# Altium footprint library 10S_BYS_PcbLib1.PcbLib: 33 footprints (part 2 of 3)
Each footprint in its own frame and in the unit in brackets; x right, y up, seen from the top. Pads: shape width x height; smd on the part's side, far side on the other; paste and mask are expansions set on the pad; w line width, h text height; cw(c..) or ccw(c..) is an arc to the next point about the centre after c.
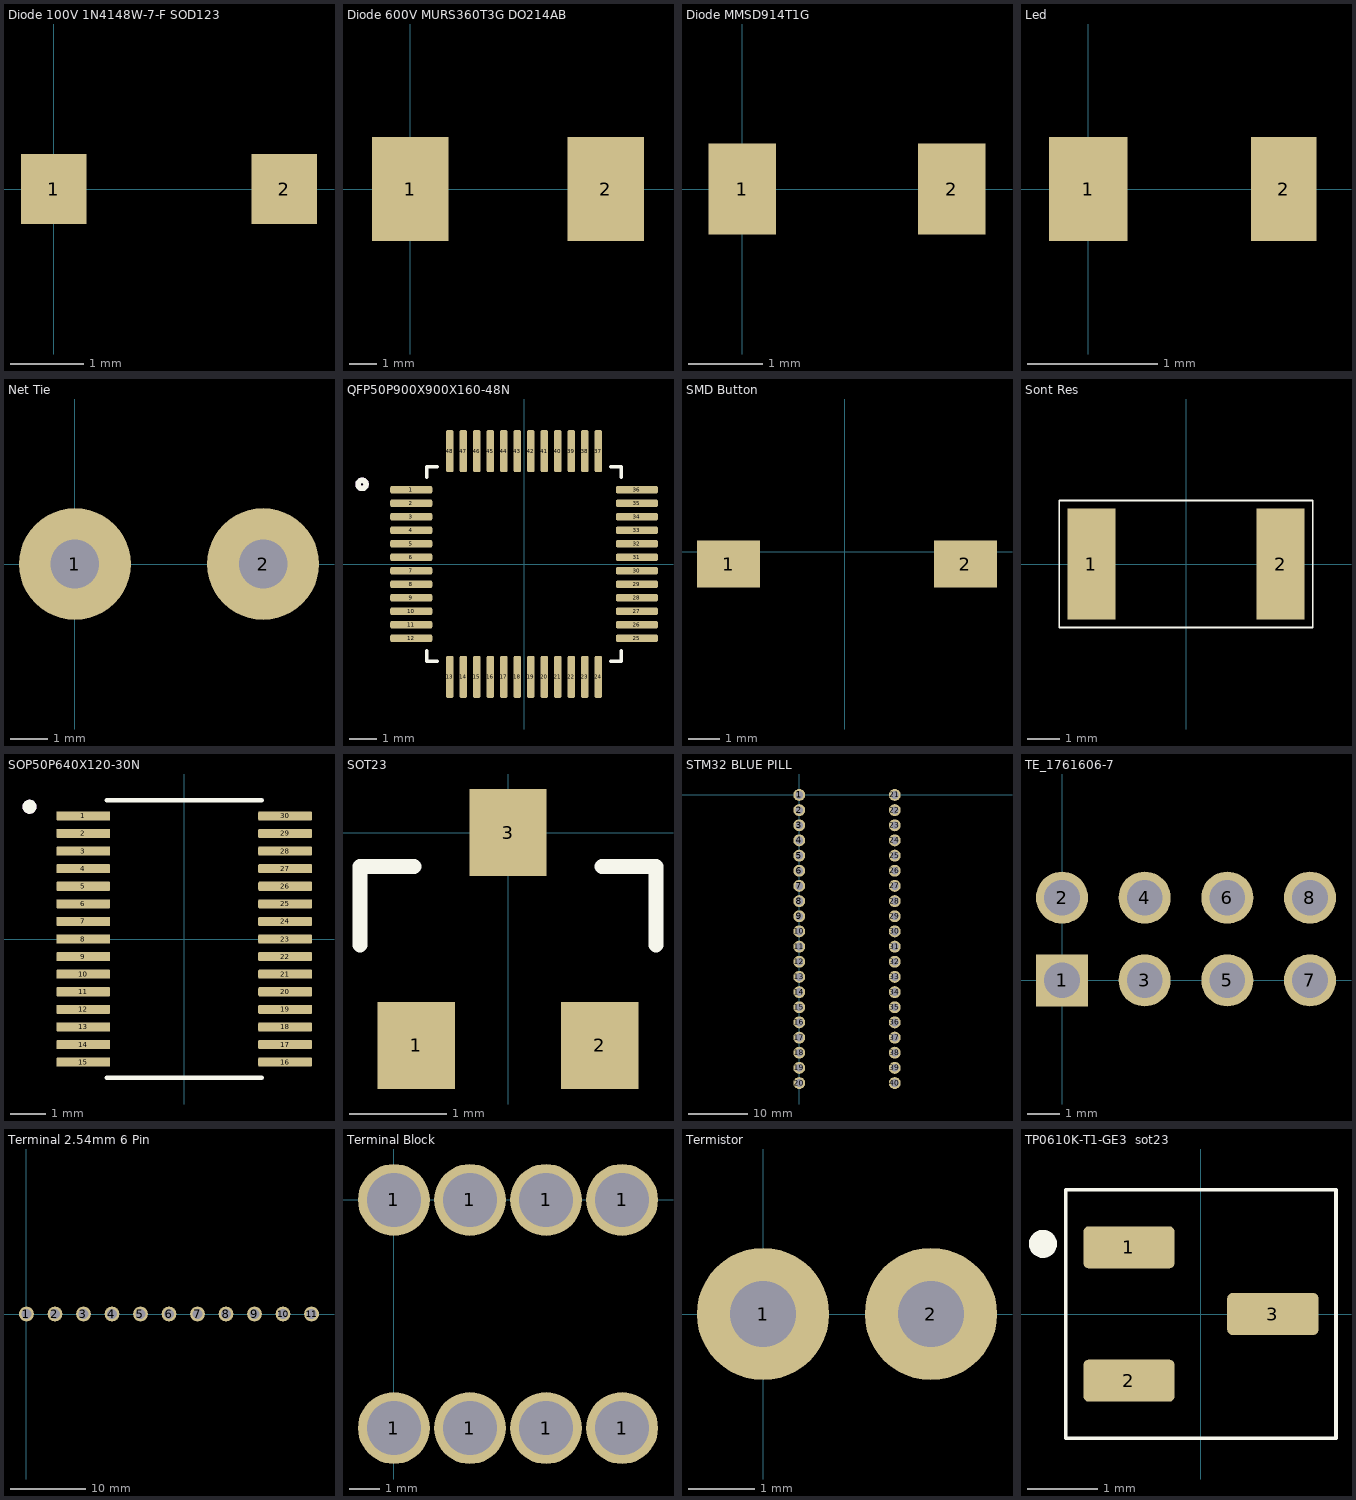
[diagram p1: the footprints below, top view; thin cyan lines are the x and y axes]

## Diode 100V 1N4148W-7-F SOD123 [mm]
pads (2):
  rect 0.9x0.95 smd: 1(0,0) 2(3.15,0)
3D body "1n4148w-13-f.stp": height 1.1, standoff 0, extent -0.261,-0.788 3.389,0.762

## Diode 600V MURS360T3G DO214AB [mil]
pads (2):
  rect 110x150 smd: 1(0,0) 2(280.98,0)
3D body "DO-214AB.STEP": height 125.77, standoff 10.33, extent -30.51,-118.11 286.42,127.95

## Diode MMSD914T1G [mm]
pads (2):
  rect 0.91x1.22 smd: 1(0,0) 2(2.815,0)
3D body "1n4148w-13-f.stp": height 1.1, standoff 0, extent -0.442,-0.761 3.208,0.789

## Led [mm]
pads (2):
  rect 0.6x0.8 smd: 1(0,0)
  rect 0.5x0.8 smd: 2(1.5,0)
3D body "0603 Chip SMD LED (1.6x0.8mm).STEP": height 0.8, standoff 0, extent -0.05,-0.4 1.55,0.4

## Net Tie [mm]
pads (2):
  round 3 hole 1.3: 1(0,0) 2(5.04,0)

## QFP50P900X900X160-48N [mm]
pads (48):
  rrect50% 1.56x0.28 smd: 1(-4.18,2.75) 2(-4.18,2.25) 3(-4.18,1.75) 4(-4.18,1.25) 5(-4.18,0.75) 6(-4.18,0.25) 7(-4.18,-0.25) 8(-4.18,-0.75) 9(-4.18,-1.25) 10(-4.18,-1.75) 11(-4.18,-2.25) 12(-4.18,-2.75) 25(4.18,-2.75) 26(4.18,-2.25) 27(4.18,-1.75) 28(4.18,-1.25) 29(4.18,-0.75) 30(4.18,-0.25) 31(4.18,0.25) 32(4.18,0.75) 33(4.18,1.25) 34(4.18,1.75) 35(4.18,2.25) 36(4.18,2.75)
  rrect50% 0.28x1.56 smd: 13(-2.75,-4.18) 14(-2.25,-4.18) 15(-1.75,-4.18) 16(-1.25,-4.18) 17(-0.75,-4.18) 18(-0.25,-4.18) 19(0.25,-4.18) 20(0.75,-4.18) 21(1.25,-4.18) 22(1.75,-4.18) 23(2.25,-4.18) 24(2.75,-4.18) 37(2.75,4.18) 38(2.25,4.18) 39(1.75,4.18) 40(1.25,4.18) 41(0.75,4.18) 42(0.25,4.18) 43(-0.25,4.18) 44(-0.75,4.18) 45(-1.25,4.18) 46(-1.75,4.18) 47(-2.25,4.18) 48(-2.75,4.18)
Top Overlay:
  circle w0.2: c-6,2.95 r0.15
  lines w0.127: -3.6,-3.21 -3.6,-3.6 -3.21,-3.6 ; -3.6,3.21 -3.6,3.6 -3.21,3.6 ; 3.21,-3.6 3.6,-3.6 3.6,-3.21 ; 3.21,3.6 3.6,3.6 3.6,3.21
Mechanical 13:
  circle w0.2: c-6,2.95 r0.15
3D body "User Library-LQFP50P900X900X160.STEP": height 1.6, standoff 0, extent -4.452,-4.503 4.548,4.497

## SMD Button [mm]
pads (2):
  rect 2x1.5 smd: 1(-3.683,-0.381) 2(3.81,-0.381)
3D body "Tactile_SMD_3x6x2.5mm.STEP": height 2.51, standoff 0, extent -4.026,-2.21 4.026,1.448

## Sont Res [mm]
pads (2):
  rect 1.49x3.42 smd: 1(-2.914,0) 2(2.914,0)
Top Overlay:
  lines w0.05: -3.908,-1.958 -3.908,1.958 3.908,1.958 3.908,-1.958 -3.908,-1.958
3D body "step_temp.STEP": height 0.9, standoff 0, extent -3.2,-1.6 3.2,1.6

## SOP50P640X120-30N [mm]
pads (30):
  rrect25% 1.53x0.26 smd: 1(-2.87,3.5) 2(-2.87,3) 3(-2.87,2.5) 4(-2.87,2) 5(-2.87,1.5) 6(-2.87,1) 7(-2.87,0.5) 8(-2.87,0) 9(-2.87,-0.5) 10(-2.87,-1) 11(-2.87,-1.5) 12(-2.87,-2) 13(-2.87,-2.5) 14(-2.87,-3) 15(-2.87,-3.5) 16(2.87,-3.5) 17(2.87,-3) 18(2.87,-2.5) 19(2.87,-2) 20(2.87,-1.5) 21(2.87,-1) 22(2.87,-0.5) 23(2.87,0) 24(2.87,0.5) 25(2.87,1) 26(2.87,1.5) 27(2.87,2) 28(2.87,2.5) 29(2.87,3) 30(2.87,3.5)
Top Overlay:
  circle w0.2: c-4.4,3.76 r0.1
  lines w0.127: -2.2,-3.95 2.2,-3.95 ; -2.2,3.95 2.2,3.95
Mechanical 13:
  circle w0.2: c-4.4,3.76 r0.1
3D body "step_temp.STEP": height 1.2, standoff 0, extent -3.2,-3.9 3.2,3.9

## SOT23 [mm]
pads (3):
  rect 0.8x0.9 smd: 1(-0.95,-2.2) 2(0.95,-2.2) 3(0,0)
Top Overlay:
  lines w0.152: -1.529,-1.163 -1.529,-0.35 -0.971,-0.35 ; 0.971,-0.35 1.529,-0.35 1.529,-1.163
3D body "CircuitWorks-SOT-23.STEP": height 1.05, standoff -0.05, extent -1.5,-2.35 1.5,0.15

## STM32 BLUE PILL [mm]
pads (40):
  round 2 hole 1.3: 1(0,0) 2(0,-2.54) 3(0,-5.08) 4(0,-7.62) 5(0,-10.16) 6(0,-12.7) 7(0,-15.24) 8(0,-17.78) 9(0,-20.32) 10(0,-22.86) 11(0,-25.4) 12(0,-27.94) 13(0,-30.48) 14(0,-33.02) 15(0,-35.56) 16(0,-38.1) 17(0,-40.64) 18(0,-43.18) 19(0,-45.72) 20(0,-48.26) 21(16,0) 22(16,-2.54) 23(16,-5.08) 24(16,-7.62) 25(16,-10.16) 26(16,-12.7) 27(16,-15.24) 28(16,-17.78) 29(16,-20.32) 30(16,-22.86) 31(16,-25.4) 32(16,-27.94) 33(16,-30.48) 34(16,-33.02) 35(16,-35.56) 36(16,-38.1) 37(16,-40.64) 38(16,-43.18) 39(16,-45.72) 40(16,-48.26)
3D body "STM32F103C8T6_Blue_Pill v6.step": height 17.27, standoff -1, extent -3,-54.343 19.86,3.217
3D body "20-Pin Header - Female - 2.54mm.step": height 5, standoff -3, extent 14.764,-49.749 17.264,1.551
3D body "20-Pin Header - Female - 2.54mm.step": height 5, standoff -3, extent -1.236,-49.749 1.264,1.551

## TE_1761606-7 [mm]
pads (8):
  rect 1.6x1.6 hole 1.1: 1(0,0)
  round 1.6 hole 1.1: 2(0,2.54) 3(2.54,0) 4(2.54,2.54) 5(5.08,0) 6(5.08,2.54) 7(7.62,0) 8(7.62,2.54)
3D body "conector IDC2_54-2x4p.STEP": height 8.8, standoff -3.5, extent -4.857,-3.631 12.903,5.569

## Terminal 2.54mm 6 Pin [mm]
pads (11):
  round 2 hole 1.3: 1(0,0) 2(3.81,0) 3(7.62,0) 4(11.43,0) 5(15.24,0) 6(19.05,0) 7(22.86,0) 8(26.67,0) 9(30.48,0) 10(34.29,0) 11(38.1,0)
3D body "User Library-15EDG[K-RC]-3_81-07 (combination).STEP": height 8.37, standoff -2.63, extent 12.973,-17.2 40.433,1.15
3D body "User Library-15EDG[K-RC]-3_81-04 (combination).STEP": height 8.37, standoff -2.63, extent -2.328,-17.217 13.702,1.133

## Terminal Block [mm]
pads (8):
  round 2.4 hole 1.8: 1(0,-7.62) 1(0,0) 1(2.54,-7.62) 1(2.54,0) 1(5.08,-7.62) 1(5.08,0) 1(7.62,-7.62) 1(7.62,0)
3D body "7460307--3DModel-STEP-641968.STEP": height 8.2, standoff -2.7, extent -0.653,-8.277 8.35,0.723

## Termistor [mm]
pads (2):
  round 2 hole 1: 1(0,0) 2(2.54,0)

## TP0610K-T1-GE3  sot23 [mm]
pads (3):
  rrect25% 1.3x0.6 smd: 1(-1.025,0.95) 2(-1.025,-0.95) 3(1.025,0)
Top Overlay:
  circle w0.2: c-2.25,1 r0.1
  lines w0.05: -1.925,-1.77 1.925,-1.77 1.925,1.77 -1.925,1.77 -1.925,-1.77
3D body "CircuitWorks-SOT-23.STEP": height 1.05, standoff -0.05, extent -1.25,-1.5 1.25,1.5